# Altium footprint library CUI.pcblib: 1 footprints
Each footprint in its own frame and in the unit in brackets; x right, y up, seen from the top. Pads: shape width x height; smd on the part's side, far side on the other; paste and mask are expansions set on the pad; w line width, h text height; cw(c..) or ccw(c..) is an arc to the next point about the centre after c.
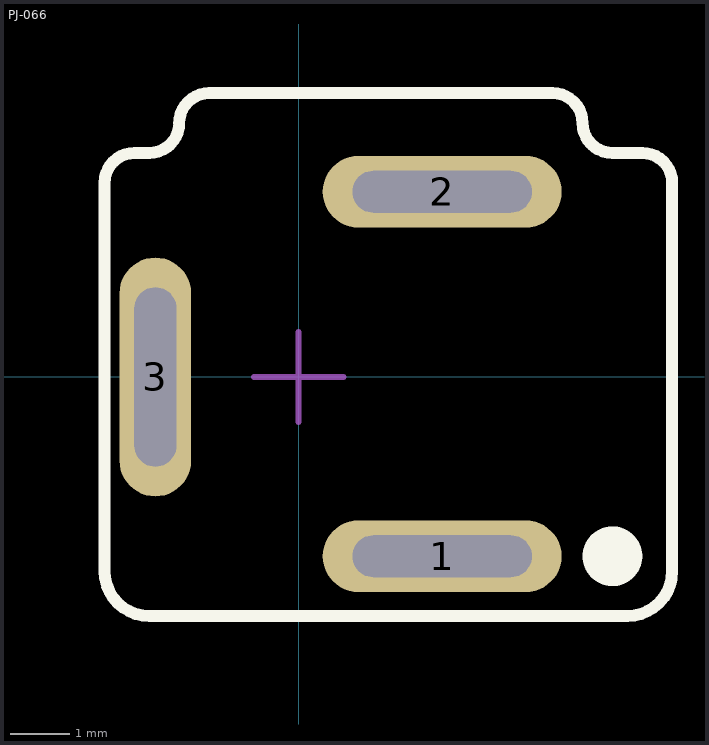
[diagram p0: the footprint, top view; thin cyan lines are the x and y axes]

## PJ-066 [mm] "DC Power Jack, THT"
pads (3):
  oval 4x1.2 hole 0.7 slot 3 at 0 deg: 1(2.4,-3) 2(2.4,3.1)
  oval 1.2x4 hole 0.7 slot 3 at 90 deg: 3(-2.4,0)
Top Overlay:
  circle w0.5: c5.25,-3 r0.25
  lines w0.2: -3.25,-3.25 ccw(c-2.5,-3.25) -2.5,-4 2.5,-4 5.5,-4 ccw(c5.5,-3.25) 6.25,-3.25 6.25,3.25 ccw(c5.75,3.25) 5.75,3.75 5.25,3.75 cw(c5.25,4.25) 4.75,4.25 ccw(c4.25,4.25) 4.25,4.75 -1.5,4.75 ccw(c-1.5,4.25) -2,4.25 cw(c-2.5,4.25) -2.5,3.75 -2.75,3.75 ccw(c-2.75,3.25) -3.25,3.25 -3.25,-3.25
Mechanical 15:
  lines w0.1: -0.75,0 0.75,0 ; 0,-0.75 0,0.75
3D body "CUI_INC_PJ-066B.step": height 12.15, standoff -2.95, extent -3.1,-3.1 7.9,16.95